# Altium schematic symbol library P-CH FETs.SchLib: 15 symbols
Pins are listed as number, name and electrical type; pins without a type are passive.

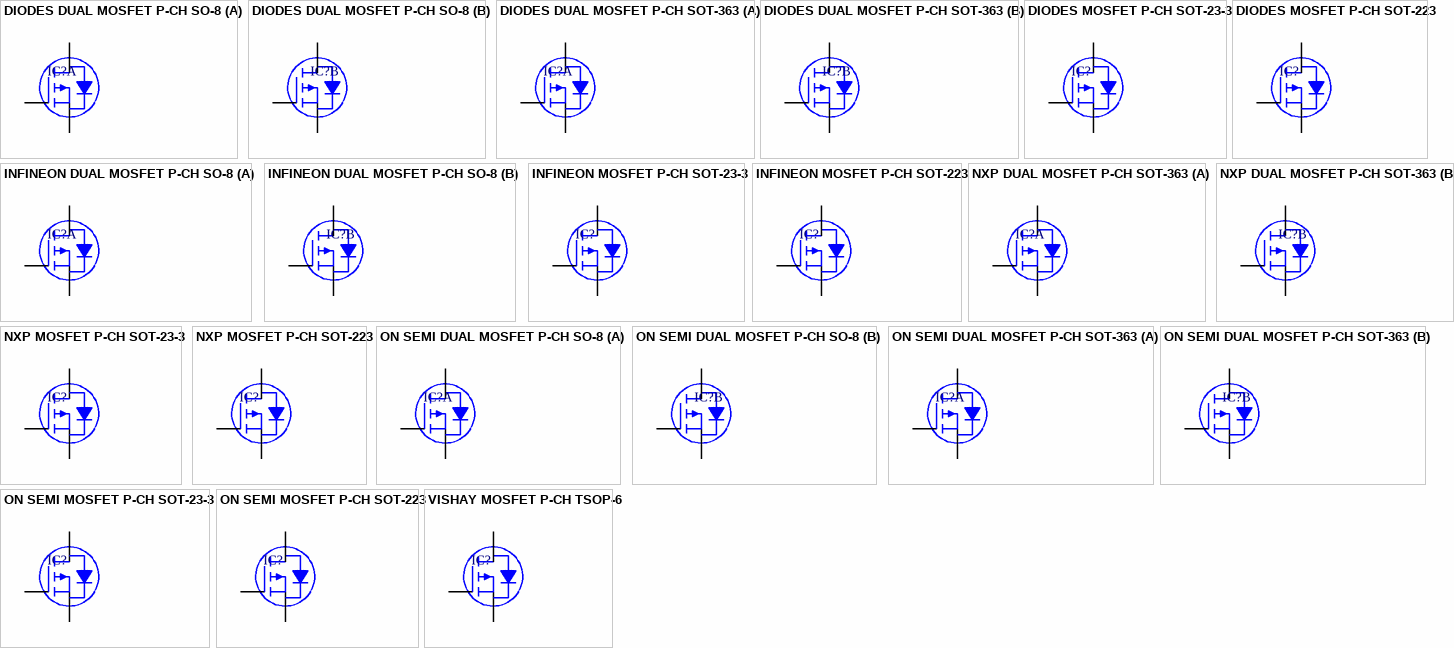
[diagram p0: symbols DIODES DUAL MOSFET P-CH SO-8 to VISHAY MOSFET P-CH TSOP-6]

## DIODES DUAL MOSFET P-CH SO-8
designator IC?
part A pins: 1 S1, 2 G1, 7 D1, 8 D1
part B pins: 3 S2, 4 G2, 5 D2, 6 D2

## DIODES DUAL MOSFET P-CH SOT-363
designator IC?
part A pins: 1 S1, 2 G1, 6 D1
part B pins: 3 D2, 4 S2, 5 G2

## DIODES MOSFET P-CH SOT-23-3
designator IC?
pins: 1 G, 2 D, 3 S

## DIODES MOSFET P-CH SOT-223
designator IC?
pins: 1 G, 2 D, 3 S, 4 D

## INFINEON DUAL MOSFET P-CH SO-8
designator IC?
part A pins: 1 S1, 2 G1, 7 D1, 8 D1
part B pins: 3 S2, 4 G2, 5 D2, 6 D2

## INFINEON MOSFET P-CH SOT-23-3
designator IC?
pins: 1 G, 2 D, 3 S

## INFINEON MOSFET P-CH SOT-223
designator IC?
pins: 1 G, 2 D, 3 S, 4 D

## NXP DUAL MOSFET P-CH SOT-363
designator IC?
part A pins: 1 S1, 2 G1, 6 D1
part B pins: 3 D2, 4 S2, 5 G2

## NXP MOSFET P-CH SOT-23-3
designator IC?
pins: 1 G, 2 D, 3 S

## NXP MOSFET P-CH SOT-223
designator IC?
pins: 1 G, 2 D, 3 S, 4 D

## ON SEMI DUAL MOSFET P-CH SO-8
designator IC?
part A pins: 1 S1, 2 G1, 7 D1, 8 D1
part B pins: 3 S2, 4 G2, 5 D2, 6 D2

## ON SEMI DUAL MOSFET P-CH SOT-363
designator IC?
part A pins: 1 S1, 2 G1, 6 D1
part B pins: 3 D2, 4 S2, 5 G2

## ON SEMI MOSFET P-CH SOT-23-3
designator IC?
pins: 1 G, 2 D, 3 S

## ON SEMI MOSFET P-CH SOT-223
designator IC?
pins: 1 G, 2 D, 3 S, 4 D

## VISHAY MOSFET P-CH TSOP-6
designator IC?
P-Channel 30 V (D-S) MOSFET; Manufacturer: Vishay Siliconix; MPN: SI3417DV-T1-GE3; Description: MOSFET P-CH 30V 8A TSOP-6; Current - Continuous Drain (Id) @ 25°C: 8A (Ta); Drive Voltage (Max Rds On,  Min Rds On): 4.5V, 10V; Rds On (Max) @ Id, Vgs: 25.2 mOhm @ 7.3A, 10V; Vgs(th) (Max) @ Id: 3V @ 250µA; Vgs (Max): ±20V; Power Dissipation (Max): 2W (Ta), 4.2W (Tc); Supplier: Digi-Key; RoHS: RoHS Compliant; Category: Discrete Semiconductor Products; Stock 1: 3097; Pricing 1: 1=0.51, 10=0.429, 100=0.3216, 500=0.23584, 1000=0.18225 (USD); Packaging: Cut Tape (CT); Part Status: Active; FET Type: P-Channel; Technology: MOSFET (Metal Oxide); FET Feature: -; Operating Temperature: -55°C ~ 150°C (TJ); Mounting Type: Surface Mount; Supplier Device Package: 6-TSOP; Package / Case: SOT-23-6 Thin, TSOT-23-6; ComponentLink1URL: http://www.vishay.com/docs/62890/si3417dv.pdf; ComponentLink1Description: http://www.vishay.com/docs/62890/si3417dv.pdf; Supplier Part Number 1: SI3417DV-T1-GE3CT-ND; Price: 0,51
footprint VISHAY TSOP-6 MO-193C (SOT23, 6-Leads, Body 3.03x2.84mm, Pitch 0.95mm, IPC Medium Density)
pins: 1 D, 2 D, 3 G, 4 S, 5 D, 6 D